# Altium footprint library Flow_Pump显示板.PcbLib: 70 footprints (part 1 of 5)
Each footprint in its own frame and in the unit in brackets; x right, y up, seen from the top. Pads: shape width x height; smd on the part's side, far side on the other; paste and mask are expansions set on the pad; w line width, h text height; cw(c..) or ccw(c..) is an arc to the next point about the centre after c.
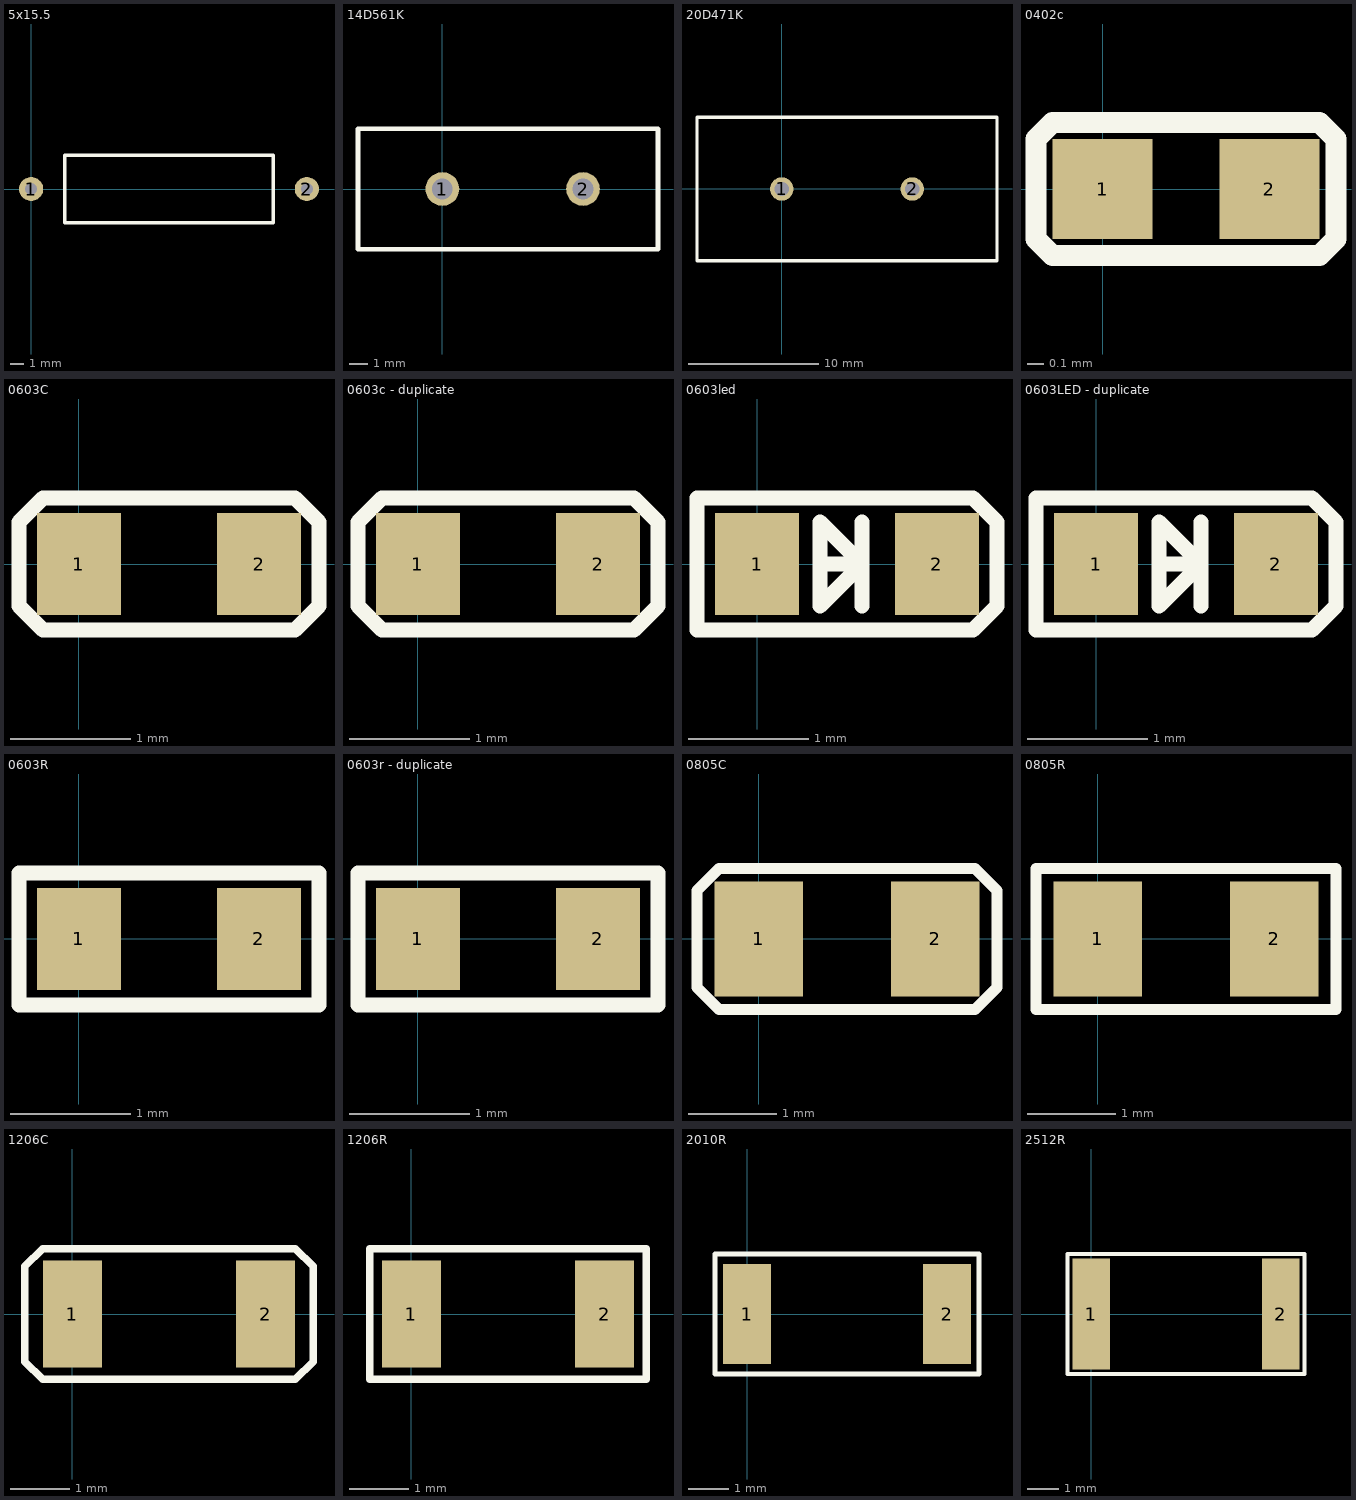
[diagram p0: the footprints below, top view; thin cyan lines are the x and y axes]

## 5x15.5 [mm]
height 0.75
pads (2):
  round 1.8 hole 0.9: 1(0,0) 2(20.5,0)
Top Overlay:
  lines w0.254: 2.5,-2.5 18,-2.5 18,2.5 2.5,2.5 2.5,-2.5

## 14D561K [mm]
height 0.75
pads (2):
  round 1.8 hole 1.1: 1(0,0) 2(7.5,0)
Top Overlay:
  lines w0.254: 11.5,-3.21 -4.5,-3.21 -4.5,3.21 11.5,3.21 11.5,-3.175

## 20D471K [mm]
height 0.75
pads (2):
  round 1.8 hole 1.1: 1(0,0) 2(10,0)
Top Overlay:
  lines w0.254: 16.5,-5.5 -6.5,-5.5 -6.5,5.5 16.5,5.5 16.5,-5.422

## 0402c [mm]
height 0.75
pads (2):
  rect 0.6x0.6 smd: 1(0,0) 2(1,0)
Top Overlay:
  lines w0.127: -0.4,-0.3 -0.3,-0.4 1.3,-0.4 ; -0.4,-0.3 -0.4,-0.3 ; -0.4,-0.3 -0.4,0.3 ; -0.4,0.3 -0.3,0.4 1.3,0.4 1.4,0.3 ; -0.4,0.3 -0.4,0.3 ; 1.3,-0.4 1.4,-0.3 ; 1.3,-0.4 1.3,-0.4 ; 1.4,-0.3 1.4,-0.3 ; 1.4,-0.3 1.4,0.3 ; 1.4,0.3 1.4,0.3

## 0603C [mm]
height 0.75
pads (2):
  rect 0.7x0.85 smd: 1(0,0) 2(1.5,0)
Top Overlay:
  lines w0.127: -0.5,-0.35 -0.5,0.35 -0.3,0.55 1.8,0.55 2,0.35 2,-0.35 1.8,-0.55 -0.3,-0.55 -0.5,-0.35

## 0603c - duplicate [mm]
pads (2):
  rect 0.7x0.85 smd: 1(0,0) 2(1.5,0)
Top Overlay:
  lines w0.127: -0.5,-0.35 -0.5,0.35 -0.3,0.55 1.8,0.55 2,0.35 2,-0.35 1.8,-0.55 -0.3,-0.55 -0.5,-0.35

## 0603led [mm]
height 0.75
pads (2):
  rect 0.7x0.85 smd: 1(0,0) 2(1.5,0)
Top Overlay:
  lines w0.127: 0.525,0 0.875,0 ; 0.875,-0.35 0.875,0.35 ; 0.875,0 0.525,0.35 0.525,-0.35 0.875,0 ; -0.5,-0.55 -0.5,0.55 1.8,0.55 2,0.35 2,-0.35 1.8,-0.55 -0.5,-0.55

## 0603LED - duplicate [mm]
pads (2):
  rect 0.7x0.85 smd: 1(0,0) 2(1.5,0)
Top Overlay:
  lines w0.127: 0.525,0 0.875,0 ; 0.875,-0.35 0.875,0.35 ; 0.875,0 0.525,0.35 0.525,-0.35 0.875,0 ; -0.5,-0.55 -0.5,0.55 1.8,0.55 2,0.35 2,-0.35 1.8,-0.55 -0.5,-0.55

## 0603R [mm]
height 0.75
pads (2):
  rect 0.7x0.85 smd: 1(0,0) 2(1.5,0)
Top Overlay:
  lines w0.127: -0.5,-0.55 2,-0.55 2,0.55 -0.5,0.55 -0.5,-0.55

## 0603r - duplicate [mm]
pads (2):
  rect 0.7x0.85 smd: 1(0,0) 2(1.5,0)
Top Overlay:
  lines w0.127: -0.5,-0.55 -0.5,0.55 2,0.55 2,-0.55 -0.5,-0.55

## 0805C [mm]
height 0.75
pads (2):
  rect 1x1.3 smd: 1(0,0) 2(2,0)
Top Overlay:
  lines w0.127: 2.45,-0.8 -0.45,-0.8 -0.7,-0.55 -0.7,0.55 -0.45,0.8 2.45,0.8 2.7,0.55 2.7,-0.55 2.45,-0.8 ; 2.45,-0.8 2.45,-0.8

## 0805R [mm]
height 0.75
pads (2):
  rect 1x1.3 smd: 1(0,0) 2(2,0)
Top Overlay:
  lines w0.127: -0.7,-0.8 -0.7,0.8 2.7,0.8 2.7,-0.8 -0.7,-0.8 ; 2.45,-0.8 2.45,-0.8

## 1206C [mm]
height 0.75
pads (2):
  rect 1x1.8 smd: 1(0,0) 2(3.25,0)
Top Overlay:
  lines w0.127: -0.8,-0.8 -0.5,-1.1 3.75,-1.1 4.05,-0.8 4.05,0.8 3.75,1.1 -0.5,1.1 -0.8,0.8 -0.8,-0.8

## 1206R [mm]
height 0.75
pads (2):
  rect 1x1.8 smd: 1(0,0) 2(3.25,0)
Top Overlay:
  lines w0.127: -0.7,-1.1 -0.7,1.1 3.95,1.1 3.95,-1.1 -0.7,-1.1

## 2010R [mm]
height 0.6
pads (2):
  rect 1.2x2.5 smd: 1(0,0) 2(5,0)
Top Overlay:
  lines w0.127: -0.8,-1.5 -0.8,1.5 5.8,1.5 5.8,-1.5 -0.8,-1.5

## 2512R [mm]
height 0.75
pads (2):
  rect 1.2x3.5 smd: 1(0,0) 2(6,0)
Top Overlay:
  lines w0.127: -0.75,-1.9 -0.75,1.9 6.75,1.9 6.75,-1.9 -0.75,-1.9